# EAGLE library part TC7WH74FU (library FaBo-LogicIC)
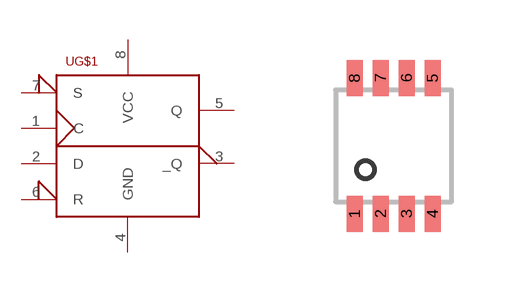
[diagram p0: symbol with the pads of SM8; footprint SM8]

Designator prefix -; gates G$1=D-TYPE_FLIPFLOP_1 G$2=POWER

## TC7WH74FU  [SM8]
1  G$1:C
2  G$1:D
3  G$1:_Q
4  G$2:GND
5  G$1:Q
6  G$1:R
7  G$1:S
8  G$2:VCC

## Footprint SM8 (pad centres in mm)
smd 0.4 x 0.9: 1 -0.975,-1.7; 2 -0.325,-1.7; 3 0.325,-1.7; 4 0.975,-1.7; 5 0.975,1.7; 6 0.325,1.7; 7 -0.325,1.7; 8 -0.975,1.7